# Altium integrated library Potentiometer 3310Y-001-502L.IntLib: 1 symbol
Pins are listed as number, name and electrical type; pins without a type are passive.

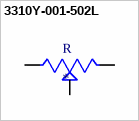
[diagram p0: symbol 3310Y-001-502L]

## 3310Y-001-502L
designator R
5k Ohm 1 Gang Linear Panel Mount Potentiometer None 1 Kierros Conductive Plastic 0.25W, 1/4W PC Pins; MF: Bourns; MP: 3310Y-001-502L; Value: *; SnapEDA_Link: https://www.snapeda.com/parts/3310Y-001-502L/Bourns/view-part/541104/?ref=snap; Package: None; Price: None; Availability: Unavailable
footprint TRIM_3310Y-001-502L
pins: 1 CCW, 2 WIPER, 3 CW